# EAGLE library part RGB-5050 (library drag-led)
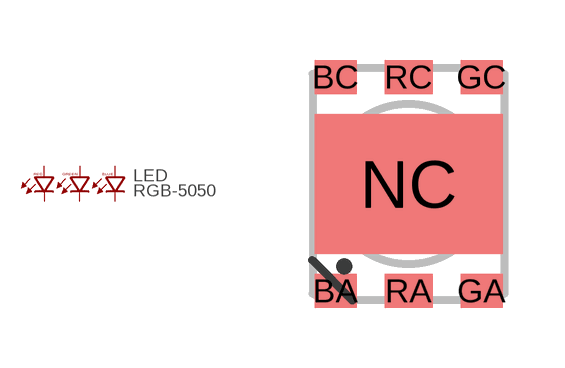
[diagram p0: symbol with the pads of RGB-5050; footprint RGB-5050]

Designator prefix LED

## RGB-5050  [RGB-5050]
BA  BA  pas
BC  BC  pas
GA  GA  pas
GC  GC  pas
RA  RA  pas
RC  RC  pas

## Footprint RGB-5050 (pad centres in mm)
smd 1.05 x 0.854: BA -1.825,-2.677; BC -1.825,2.677; GA 1.825,-2.677; GC 1.825,2.677
smd 4.7 x 3.5: NC 0,0
smd 1.2 x 0.854: RA 0,-2.677; RC 0,2.677